# EAGLE library part SN65HVD23X (library FPGA_FOC_lib)
SN65HVD23x 3.3-V CAN Bus Transceivers datasheet <http://www.ti.com/lit/ds/symlink/sn65hvd230.pdf>
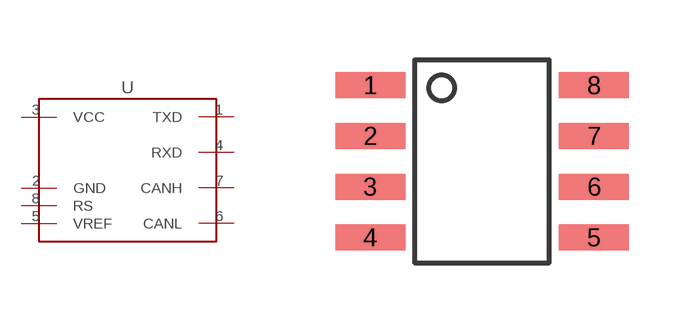
[diagram p15: symbol with the pads of SOIC_8; footprint SOIC_8]

Designator prefix U

## SN65HVD23X  [SOIC_8]
1  TXD
2  GND
3  VCC
4  RXD
5  VREF
6  CANL
7  CANH
8  RS

## Footprint SOIC_8 (pad centres in mm)
smd 1.75 x 0.65: 1 -2.8,1.905; 2 -2.8,0.635; 3 -2.8,-0.635; 4 -2.8,-1.905; 5 2.8,-1.905; 6 2.8,-0.635; 7 2.8,0.635; 8 2.8,1.905